# EAGLE library part CON-11P (library Connectors)
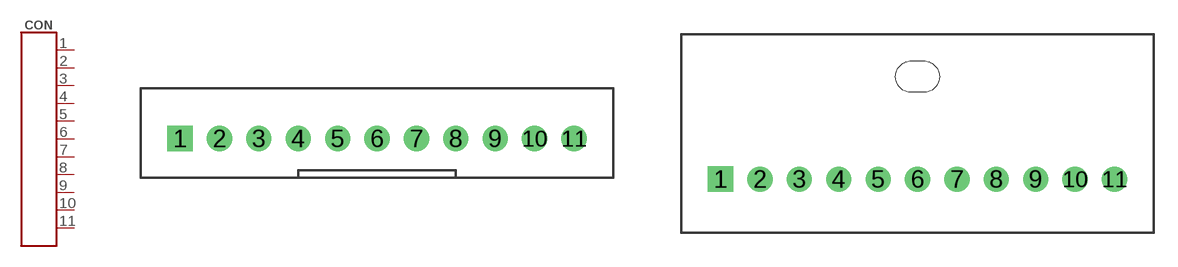
[diagram p29: symbol with the pads of B11B-XASK-1; footprints B11B-XASK-1, S11B-XASK-1]

Designator prefix CON

## CON-11P-JST-XA (LCSC#: C263751; MANF: JST Sales America; MANF#: B11B-XASK-1(LF)(SN))  [B11B-XASK-1]
1  1
2  2
3  3
4  4
5  5
6  6
7  7
8  8
9  9
10  10
11  11

## CON-11P-JST-XA-RA (LCSC#: C378993; MANF: JST Sales America; MANF#: S11B-XASK-1(LF)(SN))  [S11B-XASK-1]
Pads as for B11B-XASK-1

## Footprint B11B-XASK-1 (pad centres in mm)
Datasheet <https://datasheet.lcsc.com/lcsc/1811011929_JST-Sales-America-B04B-XASK-1-LF-SN_C264994.pdf>
drill 1 pad 1.6 square: 1 -12.5,0
drill 1 pad 1.6: 2 -10,0; 3 -7.5,0; 4 -5,0; 5 -2.5,0; 6 0,0; 7 2.5,0; 8 5,0; 9 7.5,0; 10 10,0; 11 12.5,0

## Footprint S11B-XASK-1 (pad centres in mm)
Datasheet <https://datasheet.lcsc.com/lcsc/1811011929_JST-Sales-America-B04B-XASK-1-LF-SN_C264994.pdf>
drill 1 pad 1.6 square: 1 -12.5,0
drill 1 pad 1.6: 2 -10,0; 3 -7.5,0; 4 -5,0; 5 -2.5,0; 6 0,0; 7 2.5,0; 8 5,0; 9 7.5,0; 10 10,0; 11 12.5,0